# Altium footprint library LV25-P.PcbLib: 1 footprints
Each footprint in its own frame and in the unit in brackets; x right, y up, seen from the top. Pads: shape width x height; smd on the part's side, far side on the other; paste and mask are expansions set on the pad; w line width, h text height; cw(c..) or ccw(c..) is an arc to the next point about the centre after c.
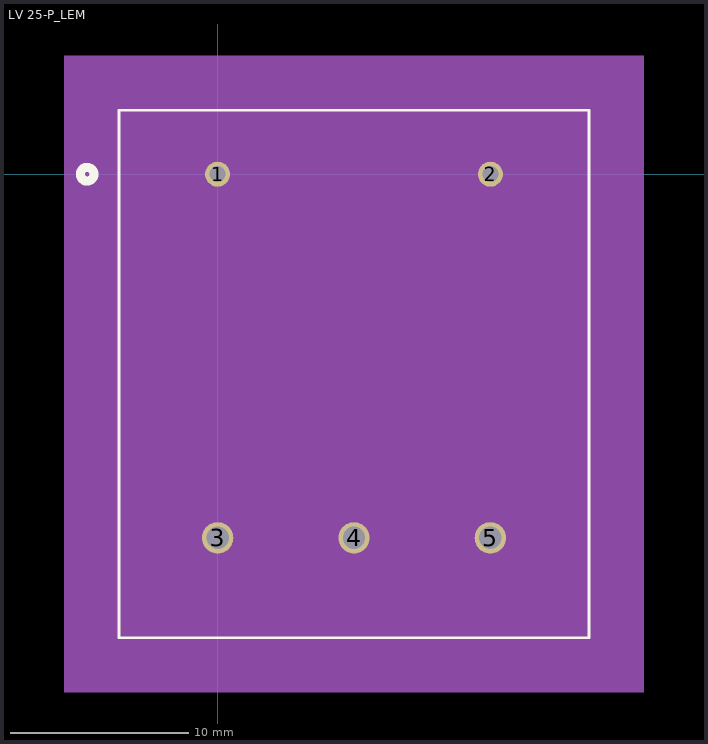
[diagram p0: the footprint, top view; thin cyan lines are the x and y axes]

## LV 25-P_LEM [mil]
pads (5):
  round 55 hole 35 mask+0: 1(0,0) 2(600,0)
  round 69 hole 49 mask+0: 3(0,-800) 4(300,-800) 5(600,-800)
Top Overlay:
  circle w20: c-287,0 r15
  lines w6: -217,-1019.57 817,-1019.57 817,140.43 -217,140.43 -217,-1019.57
Bottom Overlay:
  circle w20: c-287,0 r15
Mechanical 5:
  region: -337,260.43 937,260.43 937,-1139.57 -337,-1139.57
Mechanical 13:
  circle w20: c0,75 r15
  lines w1: -212,-1014.57 812,-1014.57 812,135.43 -212,135.43 -212,-1014.57
Mechanical 15:
  region: 822,145.43 -222,145.43 -222,-1024.57 822,-1024.57
  lines w6: -222,-1024.57 -222,145.43 822,145.43 822,-1024.57 -222,-1024.57
3D body: height 10, standoff 0, extent 0,0 10,10